# EAGLE library part ABA-54563-BLKG (library Avago_By_element14_Batch_1)
3.4 GHz Broadband Silicon RFIC Amplifier
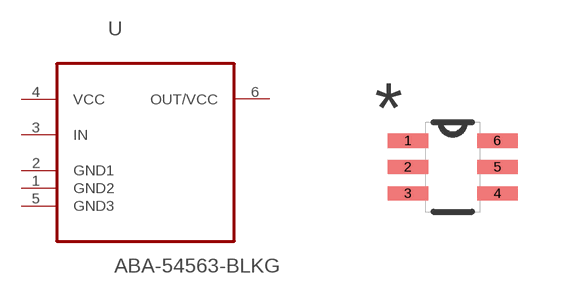
[diagram p1: symbol with the pads of SOT65P210X110-6N; footprint SOT65P210X110-6N]

Designator prefix U

## ABA-54563-BLKG (DESCRIPTION: 3.4 GHz Broadband Silicon RFIC Amplifier; MPN: ABA-54563-BLKG; OC_FARNELL: -; OC_NEWARK: 08J1009; PACKAGE: SC-70-6; SUPPLIER: Avago Technologies)  [SOT65P210X110-6N]
1  GND2  pas
2  GND1  pas
3  IN  in
4  VCC  pwr
5  GND3  pas
6  OUT/VCC  out

## Footprint SOT65P210X110-6N (pad centres in mm)
smd 1.016 x 0.356: 1 -1.118,0.66; 2 -1.118,0; 3 -1.118,-0.66; 4 1.118,-0.66; 5 1.118,0; 6 1.118,0.66